# Altium schematic symbol library LD7575.SchLib: 1 symbol
Pins are listed as number, name and electrical type; pins without a type are passive.

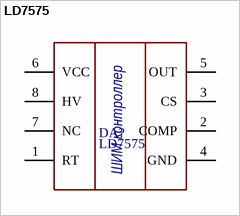
[diagram p0: symbol LD7575]

## LD7575
designator DA?
Green-Mode PWM Controller with High-Voltage Start-Up Circuit; MF: Leadtrend Technology Corporation; SnapEDA_Link: https://www.snapeda.com/parts/LD7575/Leadtrend/view-part/?ref=snap; Package: Package; MP: LD7575; Check_prices: https://www.snapeda.com/parts/LD7575/Leadtrend/view-part/?ref=eda; Value: *
pins: 1 RT, 2 COMP, 3 CS, 4 GND, 5 OUT, 6 VCC, 7 NC, 8 HV
text: ШИМ контроллер